# Altium integrated library Linear Technology Power Management Switching Regulator LTC1174-LTC3901.IntLib: 2647 symbols (part 294 of 364)
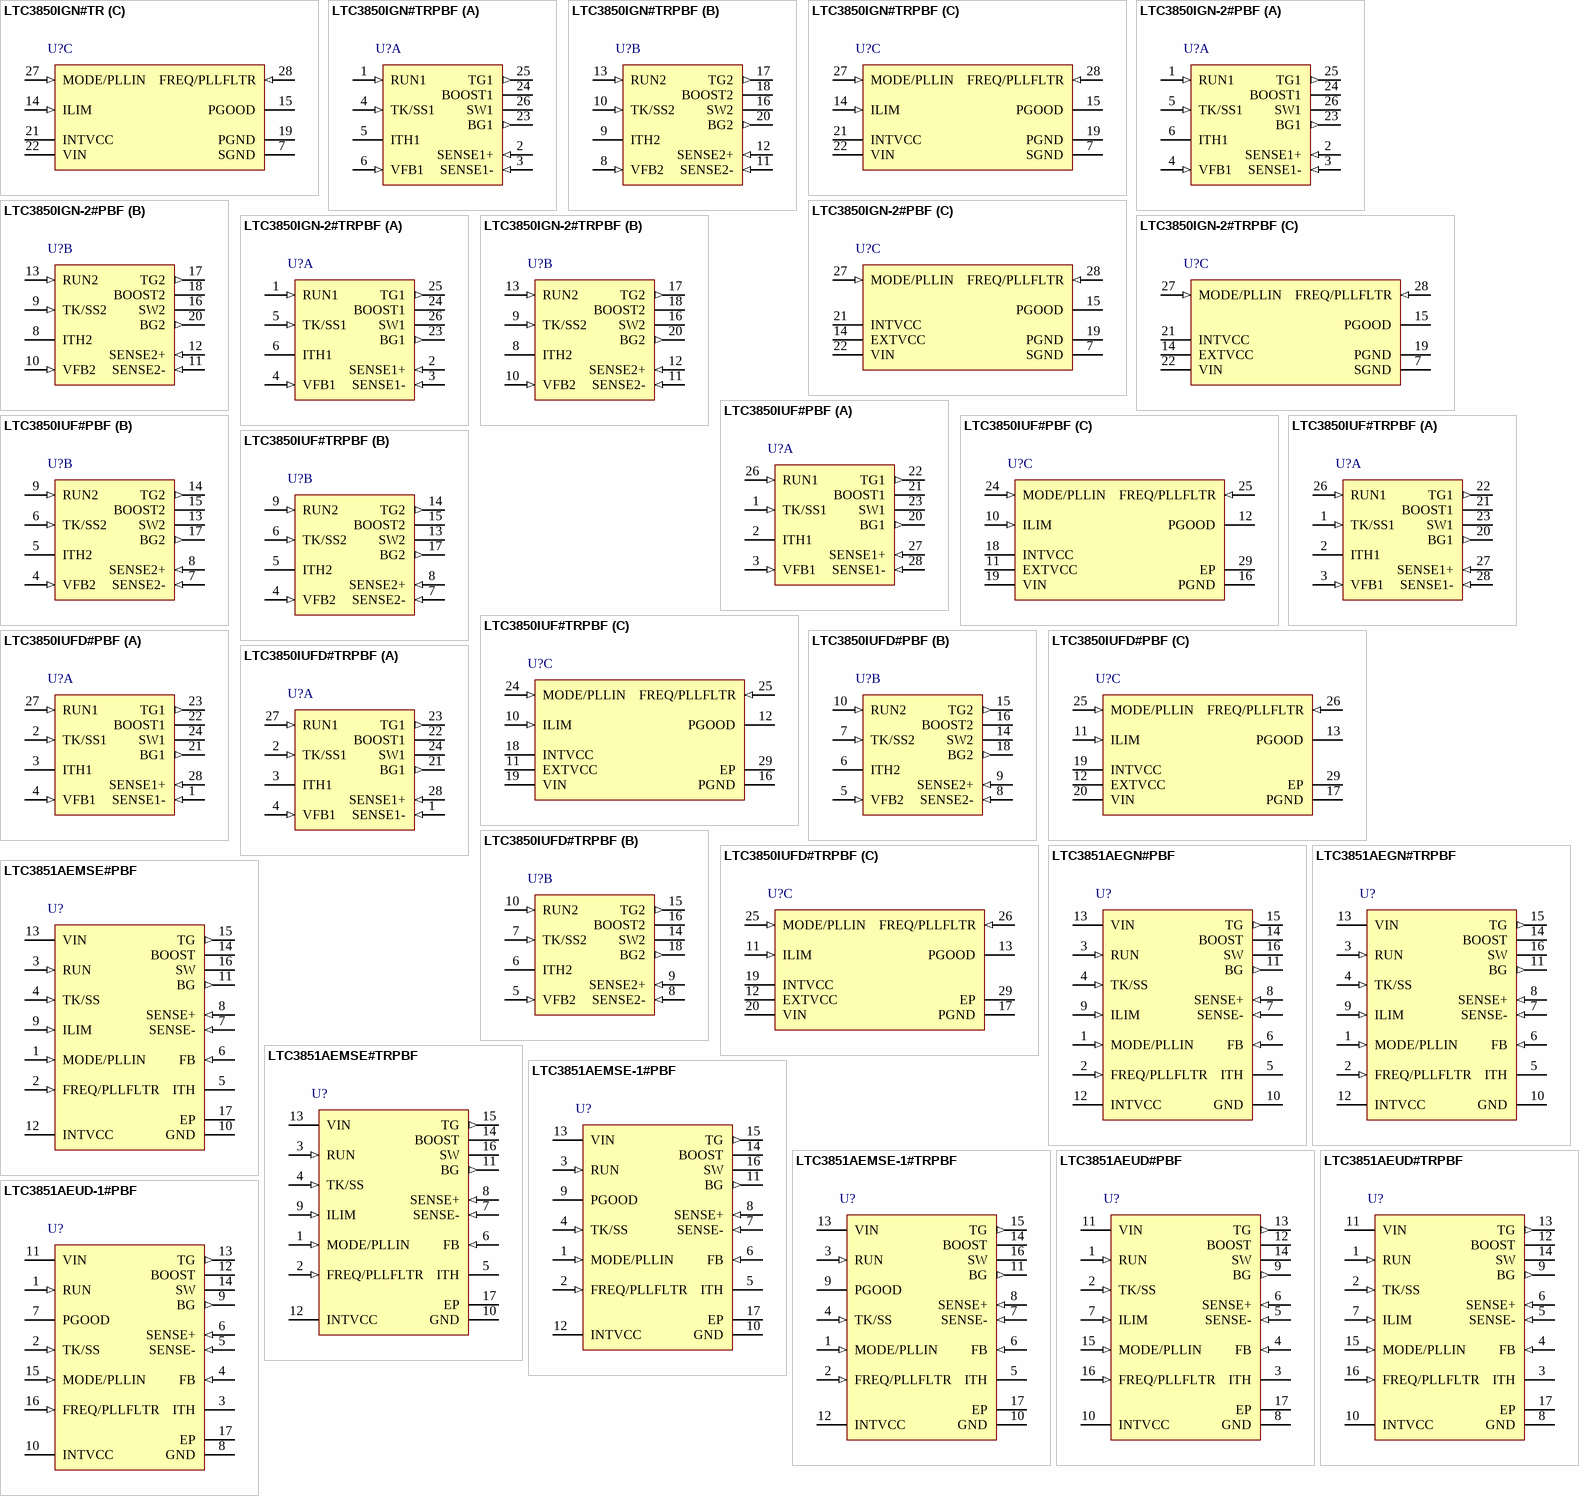
[diagram p269: symbols LTC3850IGN#TR to LTC3851AEUD-1#PBF]

## LTC3850IUFD#PBF
designator U?
Dual, 2-Phase Synchronous Step-Down Switching Controller, 28-pin QFN (UF-28), -40 to 85 degC, Pb-Free; Manufacturer: Linear Technology; PartNumber: LTC3850IUFD#PBF; Frequency Sync Range: 250kHz - 780kHz; Number of Outputs: 2; DatasheetVersion: Rev. C; PackageVersion: Rev. B, 06/2010; PackageReference: UFD-28; PackageDescription: 28-Pin Plastic QFN, Body 5 x 4 mm, Pitch 0.5 mm; Supplier 1: Digi-Key; Supplier Part Number 1: LTC3850IUFD#PBF-ND; Supplier 2: Farnell; Supplier Part Number 2: 2295174; RoHS: TRUE; Mounting Technology: Surface Mount; Code_JEDEC: MO-220; ComponentLink1Description: Manufacturer URL; ComponentLink1URL: http://www.linear.com/; ComponentLink2Description: Datasheet; ComponentLink2URL: http://cds.linear.com/docs/en/datasheet/38501fc.pdf; ComponentLink3Description: Package Specification; ComponentLink3URL: http://cds.linear.com/docs/en/packaging/QFN_28_05-08-1712.pdf
footprint LT-UFD-28_N (QFN, 28-Leads, Body 5.1x4.1mm, Pitch 0.5mm, Thermal Pad 3.65x2.65mm, IPC Medium Density)
footprint LT-UFD-28_L (QFN, 28-Leads, Body 5.1x4.1mm, Pitch 0.5mm, Thermal Pad 3.65x2.65mm, IPC High Density)
footprint LT-UFD-28_M (QFN, 28-Leads, Body 5.1x4.1mm, Pitch 0.5mm, Thermal Pad 3.65x2.65mm, IPC Low Density)
part A pins: 1 SENSE1- (in) "Current Sense Comparator Inputs. The (-) inputs to the current comparators are connected to the outputs.", 2 TK/SS1 (in) "Output Voltage Tracking and Soft-Start Inputs. When one particular channel is configured to be the master of two channels, a capacitor to ground at this pin sets the ramp rate for the master channel's output voltage. Whe(See Datasheet)", 3 ITH1 "Current Control Thresholds and Error Amplifier Compensation Points. Each associated channels?current comparator tripping threshold increases with its ITH control voltage.", 4 VFB1 (in) "Error Amplifier Feedback Inputs. These pins receive the remotely sensed feedback voltages for each channel from external resistive dividers across the outputs.", 21 BG1 (out) "Bottom Gate Driver Outputs. These pins drive the gates of the bottom N-channel MOSFETs between PGND and INTVCC.", 22 BOOST1 "Boosted Floating Driver Supplies. The (+) terminal of the booststrap capacitors connect to these pins. These pins swing from a diode voltage drop below INTVCC up to VIN + INTVCC.", 23 TG1 (out) "Top Gate Driver Outputs. These are the outputs of floating drivers with a voltage swing equal to INTVCC superimposed on the switch nodes voltages.", 24 SW1 "Switch Node Connections to Inductors. Voltage swing at these pins is from a Schottky diode (external) voltage drop below ground to VIN.", 27 RUN1 (in) "Run Control Inputs. A voltage above 1.2V on either pin turns on the IC. However, forcing either of these pins below 1.2V causes the IC to shut down the circuitry required for that particular channel. There are 1uA pull-up (See Datasheet)", 28 SENSE1+ (in) "Current Sense Comparator Inputs. The (+) inputs to the current comparators are normally connected to DCR sensing networks or current sensing resistors."
part B pins: 5 VFB2 (in) "Error Amplifier Feedback Inputs. These pins receive the remotely sensed feedback voltages for each channel from external resistive dividers across the outputs.", 6 ITH2 "Current Control Thresholds and Error Amplifier Compensation Points. Each associated channels?current comparator tripping threshold increases with its ITH control voltage.", 7 TK/SS2 (in) "Output Voltage Tracking and Soft-Start Inputs. When one particular channel is configured to be the master of two channels, a capacitor to ground at this pin sets the ramp rate for the master channel's output voltage. Whe(See Datasheet)", 8 SENSE2- (in) "Current Sense Comparator Inputs. The (-) inputs to the current comparators are connected to the outputs.", 9 SENSE2+ (in) "Current Sense Comparator Inputs. The (+) inputs to the current comparators are normally connected to DCR sensing networks or current sensing resistors.", 10 RUN2 (in) "Run Control Inputs. A voltage above 1.2V on either pin turns on the IC. However, forcing either of these pins below 1.2V causes the IC to shut down the circuitry required for that particular channel. There are 1uA pull-up (See Datasheet)", 14 SW2 "Switch Node Connections to Inductors. Voltage swing at these pins is from a Schottky diode (external) voltage drop below ground to VIN.", 15 TG2 (out) "Top Gate Driver Outputs. These are the outputs of floating drivers with a voltage swing equal to INTVCC superimposed on the switch nodes voltages.", 16 BOOST2 "Boosted Floating Driver Supplies. The (+) terminal of the booststrap capacitors connect to these pins. These pins swing from a diode voltage drop below INTVCC up to VIN + INTVCC.", 18 BG2 (out) "Bottom Gate Driver Outputs. These pins drive the gates of the bottom N-channel MOSFETs between PGND and INTVCC."
part C pins: 11 ILIM (in) "Current Comparator Sense Voltage Range Inputs. This pin is to be programmed to SGND, FLOAT or INTVCC to set the maximum current sense threshold to three different levels for each comparator. The current limit default value (See Datasheet)", 12 EXTVCC (power) "External Power Input to an Internal Switch Connected to INTVCC. This switch closes and supplies the IC power, bypassing the internal low dropout regulator, whenever EXTVCC is higher than 4.7V. Do not exceed 6V on this pin.", 13 PGOOD (oc) "Power Good Indicator Output. Open drain logic out that is pulled to ground when either channel output exceeds +/-10% regulation windows, after the internal 20us power bad mask timer expires.", 17 PGND (power) "Power Ground Pin. Connect this pin closely to the sources of the bottom N-channel MOSFETs, the (-) terminal of CVCC and the (-) terminal of CIN.", 19 INTVCC (power) "Internal 5V Regulator Output. The control circuits are powered from this voltage. Decouple this pin to PGND with a minimum of 4.7uF low ESR tantalum or ceramic capacitor.", 20 VIN (power) "Main Input Supply. Decouple this pin to PGND with a capacitor (0.1uF to 1uF).", 25 MODE/PLLIN (in) "Forced Continuous Mode, Burst Mode Operation, or Pulse-Skipping Mode Selection Pin and External Synchronization Input to Phase Detector Pin. Connect this pin to SGND to force both channels in continuous mode of operation. (See Datasheet)", 26 FREQ/PLLFLTR (in) "There is a precision 10uA current flowing out of this pin. Connect a resistor to ground set the controllers?operating frequency. Alternatively, this pin can be driven with a DC voltage to vary the frequency of th(See Datasheet)", 29 EP (power) "Signal Ground. Must be soldered to PCB, providing a local ground for the control components of the IC, and be tied to the PGND pin under the IC."

## LTC3850IUFD#TRPBF
designator U?
Dual, 2-Phase Synchronous Step-Down Switching Controller, 28-pin QFN (UF-28), -40 to 85 degC, Pb-Free, Tape and Reel; Manufacturer: Linear Technology; PartNumber: LTC3850IUFD#TRPBF; Frequency Sync Range: 250kHz - 780kHz; Number of Outputs: 2; DatasheetVersion: Rev. C; PackageVersion: Rev. B, 06/2010; PackageReference: UFD-28; PackageDescription: 28-Pin Plastic QFN, Body 5 x 4 mm, Pitch 0.5 mm; Supplier 1: Digi-Key; Supplier Part Number 1: LTC3850IUFD#TRPBF-ND; Supplier 2: Newark; Supplier Part Number 2: 75M4538; Packing: Tape and Reel; RoHS: TRUE; Mounting Technology: Surface Mount; Code_JEDEC: MO-220; ComponentLink1Description: Manufacturer URL; ComponentLink1URL: http://www.linear.com/; ComponentLink2Description: Datasheet; ComponentLink2URL: http://cds.linear.com/docs/en/datasheet/38501fc.pdf; ComponentLink3Description: Package Specification; ComponentLink3URL: http://cds.linear.com/docs/en/packaging/QFN_28_05-08-1712.pdf
footprint LT-UFD-28_N (QFN, 28-Leads, Body 5.1x4.1mm, Pitch 0.5mm, Thermal Pad 3.65x2.65mm, IPC Medium Density)
footprint LT-UFD-28_L (QFN, 28-Leads, Body 5.1x4.1mm, Pitch 0.5mm, Thermal Pad 3.65x2.65mm, IPC High Density)
footprint LT-UFD-28_M (QFN, 28-Leads, Body 5.1x4.1mm, Pitch 0.5mm, Thermal Pad 3.65x2.65mm, IPC Low Density)
part A pins: 1 SENSE1- (in) "Current Sense Comparator Inputs. The (-) inputs to the current comparators are connected to the outputs.", 2 TK/SS1 (in) "Output Voltage Tracking and Soft-Start Inputs. When one particular channel is configured to be the master of two channels, a capacitor to ground at this pin sets the ramp rate for the master channel's output voltage. Whe(See Datasheet)", 3 ITH1 "Current Control Thresholds and Error Amplifier Compensation Points. Each associated channels?current comparator tripping threshold increases with its ITH control voltage.", 4 VFB1 (in) "Error Amplifier Feedback Inputs. These pins receive the remotely sensed feedback voltages for each channel from external resistive dividers across the outputs.", 21 BG1 (out) "Bottom Gate Driver Outputs. These pins drive the gates of the bottom N-channel MOSFETs between PGND and INTVCC.", 22 BOOST1 "Boosted Floating Driver Supplies. The (+) terminal of the booststrap capacitors connect to these pins. These pins swing from a diode voltage drop below INTVCC up to VIN + INTVCC.", 23 TG1 (out) "Top Gate Driver Outputs. These are the outputs of floating drivers with a voltage swing equal to INTVCC superimposed on the switch nodes voltages.", 24 SW1 "Switch Node Connections to Inductors. Voltage swing at these pins is from a Schottky diode (external) voltage drop below ground to VIN.", 27 RUN1 (in) "Run Control Inputs. A voltage above 1.2V on either pin turns on the IC. However, forcing either of these pins below 1.2V causes the IC to shut down the circuitry required for that particular channel. There are 1uA pull-up (See Datasheet)", 28 SENSE1+ (in) "Current Sense Comparator Inputs. The (+) inputs to the current comparators are normally connected to DCR sensing networks or current sensing resistors."
part B pins: 5 VFB2 (in) "Error Amplifier Feedback Inputs. These pins receive the remotely sensed feedback voltages for each channel from external resistive dividers across the outputs.", 6 ITH2 "Current Control Thresholds and Error Amplifier Compensation Points. Each associated channels?current comparator tripping threshold increases with its ITH control voltage.", 7 TK/SS2 (in) "Output Voltage Tracking and Soft-Start Inputs. When one particular channel is configured to be the master of two channels, a capacitor to ground at this pin sets the ramp rate for the master channel's output voltage. Whe(See Datasheet)", 8 SENSE2- (in) "Current Sense Comparator Inputs. The (-) inputs to the current comparators are connected to the outputs.", 9 SENSE2+ (in) "Current Sense Comparator Inputs. The (+) inputs to the current comparators are normally connected to DCR sensing networks or current sensing resistors.", 10 RUN2 (in) "Run Control Inputs. A voltage above 1.2V on either pin turns on the IC. However, forcing either of these pins below 1.2V causes the IC to shut down the circuitry required for that particular channel. There are 1uA pull-up (See Datasheet)", 14 SW2 "Switch Node Connections to Inductors. Voltage swing at these pins is from a Schottky diode (external) voltage drop below ground to VIN.", 15 TG2 (out) "Top Gate Driver Outputs. These are the outputs of floating drivers with a voltage swing equal to INTVCC superimposed on the switch nodes voltages.", 16 BOOST2 "Boosted Floating Driver Supplies. The (+) terminal of the booststrap capacitors connect to these pins. These pins swing from a diode voltage drop below INTVCC up to VIN + INTVCC.", 18 BG2 (out) "Bottom Gate Driver Outputs. These pins drive the gates of the bottom N-channel MOSFETs between PGND and INTVCC."
part C pins: 11 ILIM (in) "Current Comparator Sense Voltage Range Inputs. This pin is to be programmed to SGND, FLOAT or INTVCC to set the maximum current sense threshold to three different levels for each comparator. The current limit default value (See Datasheet)", 12 EXTVCC (power) "External Power Input to an Internal Switch Connected to INTVCC. This switch closes and supplies the IC power, bypassing the internal low dropout regulator, whenever EXTVCC is higher than 4.7V. Do not exceed 6V on this pin.", 13 PGOOD (oc) "Power Good Indicator Output. Open drain logic out that is pulled to ground when either channel output exceeds +/-10% regulation windows, after the internal 20us power bad mask timer expires.", 17 PGND (power) "Power Ground Pin. Connect this pin closely to the sources of the bottom N-channel MOSFETs, the (-) terminal of CVCC and the (-) terminal of CIN.", 19 INTVCC (power) "Internal 5V Regulator Output. The control circuits are powered from this voltage. Decouple this pin to PGND with a minimum of 4.7uF low ESR tantalum or ceramic capacitor.", 20 VIN (power) "Main Input Supply. Decouple this pin to PGND with a capacitor (0.1uF to 1uF).", 25 MODE/PLLIN (in) "Forced Continuous Mode, Burst Mode Operation, or Pulse-Skipping Mode Selection Pin and External Synchronization Input to Phase Detector Pin. Connect this pin to SGND to force both channels in continuous mode of operation. (See Datasheet)", 26 FREQ/PLLFLTR (in) "There is a precision 10uA current flowing out of this pin. Connect a resistor to ground set the controllers?operating frequency. Alternatively, this pin can be driven with a DC voltage to vary the frequency of th(See Datasheet)", 29 EP (power) "Signal Ground. Must be soldered to PCB, providing a local ground for the control components of the IC, and be tied to the PGND pin under the IC."

## LTC3851AEGN#PBF
designator U?
Synchronous Step-Down Switching Regulator Controller (with Improved PLL), 16-pin SOP (GN-16), -40 to 125 degC, Pb-Free; Manufacturer: Linear Technology; PartNumber: LTC3851AEGN#PBF; Frequency Sync Range: 250kHz - 750kHz; Number of Outputs: 1; DatasheetVersion: Rev. A; PackageVersion: Rev. B, 03/2012; PackageReference: GN-16; PackageDescription: 16-Pin Plastic SSOP, Body 4.9 x 3.9 mm, Pitch 0.635 mm; Supplier 1: Digi-Key; Supplier Part Number 1: LTC3851AEGN#PBF-ND; Supplier 2: Farnell; Supplier Part Number 2: 1869418; Supplier 3: Newark; Supplier Part Number 3: 13T3928; RoHS: TRUE; Mounting Technology: Surface Mount; ComponentLink1Description: Manufacturer URL; ComponentLink1URL: http://www.linear.com/; ComponentLink2Description: Datasheet; ComponentLink2URL: http://cds.linear.com/docs/en/datasheet/3851afa.pdf; ComponentLink3Description: Package Specification; ComponentLink3URL: http://cds.linear.com/docs/en/packaging/05081641_B_GN16.pdf
footprint LT-GN-16_N (SOP, 16-Leads, Body 5x4mm, Pitch 0.635mm, IPC Medium Density)
footprint LT-GN-16_L (SOP, 16-Leads, Body 5x4mm, Pitch 0.635mm, IPC High Density)
footprint LT-GN-16_M (SOP, 16-Leads, Body 5x4mm, Pitch 0.635mm, IPC Low Density)
pins: 1 MODE/PLLIN (in), 2 FREQ/PLLFLTR (in), 3 RUN (in), 4 TK/SS (in), 5 ITH "Current Control Threshold and Error Amplifier Compensation Point. The current comparator tripping threshold increases with its ITH control voltage.", 6 FB (in) "Error Amplifier Feedback Input. This pin receives the remotely sensed feedback voltage from an external resistive divider across the output.", 7 SENSE- (in) "Current Sense Comparator Inverting Input. The (-) input to the current comparator is connected to the output.", 8 SENSE+ (in) "Current Sense Comparator Noninverting Input. The (+) input to the current comparator is normally connected to the DCR sensing network or current sensing resistor.", 9 ILIM (in) "Current Comparator Sense Voltage Range Input. Tying this pin to GND, FLOAT or INTVCC selects the maximum current sense threshold from three different levels.", 10 GND (power), 11 BG (out) "Bottom Gate Driver Output. This pin drives the gate of the bottom N-channel MOSFET between GND and INTVCC.", 12 INTVCC (power) "Internal 5V Regulator Output. The control circuit is powered from this voltage. Decouple this pin to GND with a minimum 2.2uF low ESR tantalum or ceramic capacitor.", 13 VIN (power) "Main Input Supply. Decouple this pin to GND with a capacitor.", 14 BOOST "Boosted Floating Driver Supply. The (+) terminal of the boost-strap capacitor is connected to this pin. This pin swings from a diode voltage drop below INTVCC up to VIN + INTVCC.", 15 TG (out) "Top Gate Driver Output. This is the output of a floating driver with a voltage swing equal to INTVCC superimposed on the switch node voltage.", 16 SW "Switch Node Connection to the Inductor. Voltage swing at this pin is from a Schottky diode (external) voltage drop below ground to VIN."

## LTC3851AEGN#TRPBF
designator U?
Synchronous Step-Down Switching Regulator Controller (with Improved PLL), 16-pin SOP (GN-16), -40 to 125 degC, Pb-Free, Tape and Reel; Manufacturer: Linear Technology; PartNumber: LTC3851AEGN#TRPBF; Frequency Sync Range: 250kHz - 750kHz; Number of Outputs: 1; DatasheetVersion: Rev. A; PackageVersion: Rev. B, 03/2012; PackageReference: GN-16; PackageDescription: 16-Pin Plastic SSOP, Body 4.9 x 3.9 mm, Pitch 0.635 mm; Supplier 1: Digi-Key; Supplier Part Number 1: LTC3851AEGN#TRPBF-ND; Packing: Tape and Reel; RoHS: TRUE; Mounting Technology: Surface Mount; ComponentLink1Description: Manufacturer URL; ComponentLink1URL: http://www.linear.com/; ComponentLink2Description: Datasheet; ComponentLink2URL: http://cds.linear.com/docs/en/datasheet/3851afa.pdf; ComponentLink3Description: Package Specification; ComponentLink3URL: http://cds.linear.com/docs/en/packaging/05081641_B_GN16.pdf
footprint LT-GN-16_N (SOP, 16-Leads, Body 5x4mm, Pitch 0.635mm, IPC Medium Density)
footprint LT-GN-16_L (SOP, 16-Leads, Body 5x4mm, Pitch 0.635mm, IPC High Density)
footprint LT-GN-16_M (SOP, 16-Leads, Body 5x4mm, Pitch 0.635mm, IPC Low Density)
pins: 1 MODE/PLLIN (in), 2 FREQ/PLLFLTR (in), 3 RUN (in), 4 TK/SS (in), 5 ITH "Current Control Threshold and Error Amplifier Compensation Point. The current comparator tripping threshold increases with its ITH control voltage.", 6 FB (in) "Error Amplifier Feedback Input. This pin receives the remotely sensed feedback voltage from an external resistive divider across the output.", 7 SENSE- (in) "Current Sense Comparator Inverting Input. The (-) input to the current comparator is connected to the output.", 8 SENSE+ (in) "Current Sense Comparator Noninverting Input. The (+) input to the current comparator is normally connected to the DCR sensing network or current sensing resistor.", 9 ILIM (in) "Current Comparator Sense Voltage Range Input. Tying this pin to GND, FLOAT or INTVCC selects the maximum current sense threshold from three different levels.", 10 GND (power), 11 BG (out) "Bottom Gate Driver Output. This pin drives the gate of the bottom N-channel MOSFET between GND and INTVCC.", 12 INTVCC (power) "Internal 5V Regulator Output. The control circuit is powered from this voltage. Decouple this pin to GND with a minimum 2.2uF low ESR tantalum or ceramic capacitor.", 13 VIN (power) "Main Input Supply. Decouple this pin to GND with a capacitor.", 14 BOOST "Boosted Floating Driver Supply. The (+) terminal of the boost-strap capacitor is connected to this pin. This pin swings from a diode voltage drop below INTVCC up to VIN + INTVCC.", 15 TG (out) "Top Gate Driver Output. This is the output of a floating driver with a voltage swing equal to INTVCC superimposed on the switch node voltage.", 16 SW "Switch Node Connection to the Inductor. Voltage swing at this pin is from a Schottky diode (external) voltage drop below ground to VIN."

## LTC3851AEMSE#PBF
designator U?
Synchronous Step-Down Switching Regulator Controller (with Improved PLL), 16-pin SOP (MSE-16-EDP), -40 to 125 degC, Pb-Free; Manufacturer: Linear Technology; PartNumber: LTC3851AEMSE#PBF; Frequency Sync Range: 250kHz - 750kHz; Number of Outputs: 1; DatasheetVersion: Rev. A; PackageVersion: Rev. F, 05/2013; PackageReference: MSE-16; PackageDescription: 16-Pin Plastic MSOP, Exposed Die Pad, Body 4.039 x 3 mm, Pitch 0.5 mm; Supplier 1: Digi-Key; Supplier Part Number 1: LTC3851AEMSE#PBF-ND; Supplier 2: Farnell; Supplier Part Number 2: 1869419; Supplier 3: Newark; Supplier Part Number 3: 13T3932; RoHS: TRUE; Mounting Technology: Surface Mount; ComponentLink1Description: Manufacturer URL; ComponentLink1URL: http://www.linear.com/; ComponentLink2Description: Datasheet; ComponentLink2URL: http://cds.linear.com/docs/en/datasheet/3851afa.pdf; ComponentLink3Description: Package Specification; ComponentLink3URL: http://cds.linear.com/docs/en/packaging/05081667_F_MSE16.pdf
footprint LT-MSE-16-EDP_N (SOP, 16-Leads, Body 4.1x3.1mm, Pitch 0.5mm, Thermal Pad 2.95x1.76mm, IPC Medium Density)
footprint LT-MSE-16-EDP_L (SOP, 16-Leads, Body 4.1x3.1mm, Pitch 0.5mm, Thermal Pad 2.95x1.76mm, IPC High Density)
footprint LT-MSE-16-EDP_M (SOP, 16-Leads, Body 4.1x3.1mm, Pitch 0.5mm, Thermal Pad 2.95x1.76mm, IPC Low Density)
pins: 1 MODE/PLLIN (in), 2 FREQ/PLLFLTR (in), 3 RUN (in), 4 TK/SS (in), 5 ITH "Current Control Threshold and Error Amplifier Compensation Point. The current comparator tripping threshold increases with its ITH control voltage.", 6 FB (in) "Error Amplifier Feedback Input. This pin receives the remotely sensed feedback voltage from an external resistive divider across the output.", 7 SENSE- (in) "Current Sense Comparator Inverting Input. The (-) input to the current comparator is connected to the output.", 8 SENSE+ (in) "Current Sense Comparator Noninverting Input. The (+) input to the current comparator is normally connected to the DCR sensing network or current sensing resistor.", 9 ILIM (in) "Current Comparator Sense Voltage Range Input. Tying this pin to GND, FLOAT or INTVCC selects the maximum current sense threshold from three different levels.", 10 GND (power) "Ground.", 11 BG (out) "Bottom Gate Driver Output. This pin drives the gate of the bottom N-channel MOSFET between GND and INTVCC.", 12 INTVCC (power) "Internal 5V Regulator Output. The control circuit is powered from this voltage. Decouple this pin to GND with a minimum 2.2uF low ESR tantalum or ceramic capacitor.", 13 VIN (power) "Main Input Supply. Decouple this pin to GND with a capacitor.", 14 BOOST "Boosted Floating Driver Supply. The (+) terminal of the boost-strap capacitor is connected to this pin. This pin swings from a diode voltage drop below INTVCC up to VIN + INTVCC.", 15 TG (out) "Top Gate Driver Output. This is the output of a floating driver with a voltage swing equal to INTVCC superimposed on the switch node voltage.", 16 SW "Switch Node Connection to the Inductor. Voltage swing at this pin is from a Schottky diode (external) voltage drop below ground to VIN.", 17 EP (power) "Ground."

## LTC3851AEMSE#TRPBF
designator U?
Synchronous Step-Down Switching Regulator Controller (with Improved PLL), 16-pin SOP (MSE-16-EDP), -40 to 125 degC, Pb-Free, Tape and Reel; Manufacturer: Linear Technology; PartNumber: LTC3851AEMSE#TRPBF; Frequency Sync Range: 250kHz - 750kHz; Number of Outputs: 1; DatasheetVersion: Rev. A; PackageVersion: Rev. F, 05/2013; PackageReference: MSE-16; PackageDescription: 16-Pin Plastic MSOP, Exposed Die Pad, Body 4.039 x 3 mm, Pitch 0.5 mm; Supplier 1: Digi-Key; Supplier Part Number 1: LTC3851AEMSE#TRPBF-ND; Packing: Tape and Reel; RoHS: TRUE; Mounting Technology: Surface Mount; ComponentLink1Description: Manufacturer URL; ComponentLink1URL: http://www.linear.com/; ComponentLink2Description: Datasheet; ComponentLink2URL: http://cds.linear.com/docs/en/datasheet/3851afa.pdf; ComponentLink3Description: Package Specification; ComponentLink3URL: http://cds.linear.com/docs/en/packaging/05081667_F_MSE16.pdf
footprint LT-MSE-16-EDP_N (SOP, 16-Leads, Body 4.1x3.1mm, Pitch 0.5mm, Thermal Pad 2.95x1.76mm, IPC Medium Density)
footprint LT-MSE-16-EDP_L (SOP, 16-Leads, Body 4.1x3.1mm, Pitch 0.5mm, Thermal Pad 2.95x1.76mm, IPC High Density)
footprint LT-MSE-16-EDP_M (SOP, 16-Leads, Body 4.1x3.1mm, Pitch 0.5mm, Thermal Pad 2.95x1.76mm, IPC Low Density)
pins: 1 MODE/PLLIN (in), 2 FREQ/PLLFLTR (in), 3 RUN (in), 4 TK/SS (in), 5 ITH "Current Control Threshold and Error Amplifier Compensation Point. The current comparator tripping threshold increases with its ITH control voltage.", 6 FB (in) "Error Amplifier Feedback Input. This pin receives the remotely sensed feedback voltage from an external resistive divider across the output.", 7 SENSE- (in) "Current Sense Comparator Inverting Input. The (-) input to the current comparator is connected to the output.", 8 SENSE+ (in) "Current Sense Comparator Noninverting Input. The (+) input to the current comparator is normally connected to the DCR sensing network or current sensing resistor.", 9 ILIM (in) "Current Comparator Sense Voltage Range Input. Tying this pin to GND, FLOAT or INTVCC selects the maximum current sense threshold from three different levels.", 10 GND (power) "Ground.", 11 BG (out) "Bottom Gate Driver Output. This pin drives the gate of the bottom N-channel MOSFET between GND and INTVCC.", 12 INTVCC (power) "Internal 5V Regulator Output. The control circuit is powered from this voltage. Decouple this pin to GND with a minimum 2.2uF low ESR tantalum or ceramic capacitor.", 13 VIN (power) "Main Input Supply. Decouple this pin to GND with a capacitor.", 14 BOOST "Boosted Floating Driver Supply. The (+) terminal of the boost-strap capacitor is connected to this pin. This pin swings from a diode voltage drop below INTVCC up to VIN + INTVCC.", 15 TG (out) "Top Gate Driver Output. This is the output of a floating driver with a voltage swing equal to INTVCC superimposed on the switch node voltage.", 16 SW "Switch Node Connection to the Inductor. Voltage swing at this pin is from a Schottky diode (external) voltage drop below ground to VIN.", 17 EP (power) "Ground."

## LTC3851AEMSE-1#PBF
designator U?
Synchronous Step-Down Switching Regulator Controller, 16-pin SOP (MSE-16-EDP), -40 to 125 degC, Pb-Free; Manufacturer: Linear Technology; PartNumber: LTC3851AEMSE-1#PBF; Frequency Sync Range: 250kHz - 750kHz; Number of Outputs: 1; DatasheetVersion: Rev. A; PackageVersion: Rev. F, 05/2013; PackageReference: MSE-16; PackageDescription: 16-Pin Plastic MSOP, Exposed Die Pad, Body 4.039 x 3 mm, Pitch 0.5 mm; Supplier 1: Digi-Key; Supplier Part Number 1: LTC3851AEMSE-1#PBF-ND; Supplier 2: Newark; Supplier Part Number 2: 13T3930; RoHS: TRUE; Mounting Technology: Surface Mount; ComponentLink1Description: Manufacturer URL; ComponentLink1URL: http://www.linear.com/; ComponentLink2Description: Datasheet; ComponentLink2URL: http://cds.linear.com/docs/en/datasheet/3851a1fa.pdf; ComponentLink3Description: Package Specification; ComponentLink3URL: http://cds.linear.com/docs/en/packaging/05081667_F_MSE16.pdf
footprint LT-MSE-16-EDP_N (SOP, 16-Leads, Body 4.1x3.1mm, Pitch 0.5mm, Thermal Pad 2.95x1.76mm, IPC Medium Density)
footprint LT-MSE-16-EDP_L (SOP, 16-Leads, Body 4.1x3.1mm, Pitch 0.5mm, Thermal Pad 2.95x1.76mm, IPC High Density)
footprint LT-MSE-16-EDP_M (SOP, 16-Leads, Body 4.1x3.1mm, Pitch 0.5mm, Thermal Pad 2.95x1.76mm, IPC Low Density)
pins: 1 MODE/PLLIN (in), 2 FREQ/PLLFLTR (in), 3 RUN (in), 4 TK/SS (in), 5 ITH "Current Control Threshold and Error Amplifier Compensation Point. The current comparator tripping threshold increases with its ITH control voltage.", 6 FB (in) "Error Amplifier Feedback Input. This pin receives the remotely sensed feedback voltage from an external resistive divider across the output.", 7 SENSE- (in) "Current Sense Comparator Inverting Input. The (-) input to the current comparator is connected to the output.", 8 SENSE+ (in) "Current Sense Comparator Noninverting Input. The (+) input to the current comparator is normally connected to the DCR sensing network or current sensing resistor.", 9 PGOOD (oc) "Power Good Indicator Output. Opendrain logic out that is pulled to ground when the output voltage exceeds the +/-10% regulation window, after the internal 17us power bad mask timer expires.", 10 GND (power) "Ground.", 11 BG (out) "Bottom Gate Driver Output. This pin drives the gate of the bottom N-channel MOSFET between GND and INTVCC.", 12 INTVCC (power) "Internal 5V Regulator Output. The control circuit is powered from this voltage. Decouple this pin to GND with a minimum 2.2uF low ESR tantalum or ceramic capacitor.", 13 VIN (power) "Main Input Supply. Decouple this pin to GND with a capacitor.", 14 BOOST "Boosted Floating Driver Supply. The (+) terminal of the boost-strap capacitor is connected to this pin. This pin swings from a diode voltage drop below INTVCC up to VIN + INTVCC.", 15 TG (out) "Top Gate Driver Output. This is the output of a floating driver with a voltage swing equal to INTVCC superimposed on the switch node voltage.", 16 SW "Switch Node Connection to the Inductor. Voltage swing at this pin is from a Schottky diode (external) voltage drop below ground to VIN.", 17 EP (power) "Ground."

## LTC3851AEMSE-1#TRPBF
designator U?
Synchronous Step-Down Switching Regulator Controller, 16-pin SOP (MSE-16-EDP), -40 to 125 degC, Pb-Free, Tape and Reel; Manufacturer: Linear Technology; PartNumber: LTC3851AEMSE-1#TRPBF; Frequency Sync Range: 250kHz - 750kHz; Number of Outputs: 1; DatasheetVersion: Rev. A; PackageVersion: Rev. F, 05/2013; PackageReference: MSE-16; PackageDescription: 16-Pin Plastic MSOP, Exposed Die Pad, Body 4.039 x 3 mm, Pitch 0.5 mm; Supplier 1: Digi-Key; Supplier Part Number 1: LTC3851AEMSE-1#TRPBF-ND; Supplier 2: Newark; Supplier Part Number 2: 13T3931; Packing: Tape and Reel; RoHS: TRUE; Mounting Technology: Surface Mount; ComponentLink1Description: Manufacturer URL; ComponentLink1URL: http://www.linear.com/; ComponentLink2Description: Datasheet; ComponentLink2URL: http://cds.linear.com/docs/en/datasheet/3851a1fa.pdf; ComponentLink3Description: Package Specification; ComponentLink3URL: http://cds.linear.com/docs/en/packaging/05081667_F_MSE16.pdf
footprint LT-MSE-16-EDP_N (SOP, 16-Leads, Body 4.1x3.1mm, Pitch 0.5mm, Thermal Pad 2.95x1.76mm, IPC Medium Density)
footprint LT-MSE-16-EDP_L (SOP, 16-Leads, Body 4.1x3.1mm, Pitch 0.5mm, Thermal Pad 2.95x1.76mm, IPC High Density)
footprint LT-MSE-16-EDP_M (SOP, 16-Leads, Body 4.1x3.1mm, Pitch 0.5mm, Thermal Pad 2.95x1.76mm, IPC Low Density)
pins: 1 MODE/PLLIN (in), 2 FREQ/PLLFLTR (in), 3 RUN (in), 4 TK/SS (in), 5 ITH "Current Control Threshold and Error Amplifier Compensation Point. The current comparator tripping threshold increases with its ITH control voltage.", 6 FB (in) "Error Amplifier Feedback Input. This pin receives the remotely sensed feedback voltage from an external resistive divider across the output.", 7 SENSE- (in) "Current Sense Comparator Inverting Input. The (-) input to the current comparator is connected to the output.", 8 SENSE+ (in) "Current Sense Comparator Noninverting Input. The (+) input to the current comparator is normally connected to the DCR sensing network or current sensing resistor.", 9 PGOOD (oc) "Power Good Indicator Output. Opendrain logic out that is pulled to ground when the output voltage exceeds the +/-10% regulation window, after the internal 17us power bad mask timer expires.", 10 GND (power) "Ground.", 11 BG (out) "Bottom Gate Driver Output. This pin drives the gate of the bottom N-channel MOSFET between GND and INTVCC.", 12 INTVCC (power) "Internal 5V Regulator Output. The control circuit is powered from this voltage. Decouple this pin to GND with a minimum 2.2uF low ESR tantalum or ceramic capacitor.", 13 VIN (power) "Main Input Supply. Decouple this pin to GND with a capacitor.", 14 BOOST "Boosted Floating Driver Supply. The (+) terminal of the boost-strap capacitor is connected to this pin. This pin swings from a diode voltage drop below INTVCC up to VIN + INTVCC.", 15 TG (out) "Top Gate Driver Output. This is the output of a floating driver with a voltage swing equal to INTVCC superimposed on the switch node voltage.", 16 SW "Switch Node Connection to the Inductor. Voltage swing at this pin is from a Schottky diode (external) voltage drop below ground to VIN.", 17 EP (power) "Ground."

## LTC3851AEUD#PBF
designator U?
Synchronous Step-Down Switching Regulator Controller (with Improved PLL), 16-pin QFN (UD-16), -40 to 125 degC, Pb-Free; Manufacturer: Linear Technology; PartNumber: LTC3851AEUD#PBF; Frequency Sync Range: 250kHz - 750kHz; Number of Outputs: 1; DatasheetVersion: Rev. A; PackageVersion: Jun-10; PackageReference: UD-16; PackageDescription: 16-Pin Plastic QFN, Body 3 x 3 mm, Pitch 0.5 mm; Supplier 1: Digi-Key; Supplier Part Number 1: LTC3851AEUD#PBF-ND; RoHS: TRUE; Mounting Technology: Surface Mount; Code_JEDEC: MO-220; ComponentLink1Description: Manufacturer URL; ComponentLink1URL: http://www.linear.com/; ComponentLink2Description: Datasheet; ComponentLink2URL: http://cds.linear.com/docs/en/datasheet/3851afa.pdf; ComponentLink3Description: Package Specification; ComponentLink3URL: http://cds.linear.com/docs/en/packaging/QFN_16_05-08-1691.pdf
footprint LT-UD-16_N (QFN, 16-Leads, Body 3x3mm, Pitch 0.5mm, Thermal Pad 1.45x1.45mm, IPC Medium Density)
footprint LT-UD-16_L (QFN, 16-Leads, Body 3x3mm, Pitch 0.5mm, Thermal Pad 1.45x1.45mm, IPC High Density)
footprint LT-UD-16_M (QFN, 16-Leads, Body 3x3mm, Pitch 0.5mm, Thermal Pad 1.45x1.45mm, IPC Low Density)
pins: 1 RUN (in), 2 TK/SS (in), 3 ITH "Current Control Threshold and Error Amplifier Compensation Point. The current comparator tripping threshold increases with its ITH control voltage.", 4 FB (in) "Error Amplifier Feedback Input. This pin receives the remotely sensed feedback voltage from an external resistive divider across the output.", 5 SENSE- (in) "Current Sense Comparator Inverting Input. The (-) input to the current comparator is connected to the output.", 6 SENSE+ (in) "Current Sense Comparator Noninverting Input. The (+) input to the current comparator is normally connected to the DCR sensing network or current sensing resistor.", 7 ILIM (in) "Current Comparator Sense Voltage Range Input. Tying this pin to GND, FLOAT or INTVCC selects the maximum current sense threshold from three different levels.", 8 GND (power) "Ground. All small-signal components and compensation components should be Kelvin connected to this ground. The (-) terminal of CVCC and the (-) terminal of CIN should be closely connected to this pin. The exposed pad should (See Datasheet)", 9 BG (out) "Bottom Gate Driver Output. This pin drives the gate of the bottom N-channel MOSFET between GND and INTVCC.", 10 INTVCC (power) "Internal 5V Regulator Output. The control circuit is powered from this voltage. Decouple this pin to GND with a minimum 2.2uF low ESR tantalum or ceramic capacitor.", 11 VIN (power) "Main Input Supply. Decouple this pin to GND with a capacitor.", 12 BOOST "Boosted Floating Driver Supply. The (+) terminal of the boost-strap capacitor is connected to this pin. This pin swings from a diode voltage drop below INTVCC up to VIN + INTVCC.", 13 TG (out) "Top Gate Driver Output. This is the output of a floating driver with a voltage swing equal to INTVCC superimposed on the switch node voltage.", 14 SW "Switch Node Connection to the Inductor. Voltage swing at this pin is from a Schottky diode (external) voltage drop below ground to VIN.", 15 MODE/PLLIN (in), 16 FREQ/PLLFLTR (in), 17 EP (power) "Ground. All small-signal components and compensation components should be Kelvin connected to this ground. The (-) terminal of CVCC and the (-) terminal of CIN should be closely connected to this pin. The exposed pad should (See Datasheet)"

## LTC3851AEUD#TRPBF
designator U?
Synchronous Step-Down Switching Regulator Controller (with Improved PLL), 16-pin QFN (UD-16), -40 to 125 degC, Pb-Free, Tape and Reel; Manufacturer: Linear Technology; PartNumber: LTC3851AEUD#TRPBF; Frequency Sync Range: 250kHz - 750kHz; Number of Outputs: 1; DatasheetVersion: Rev. A; PackageVersion: Jun-10; PackageReference: UD-16; PackageDescription: 16-Pin Plastic QFN, Body 3 x 3 mm, Pitch 0.5 mm; Supplier 1: Digi-Key; Supplier Part Number 1: LTC3851AEUD#TRPBF-ND; Packing: Tape and Reel; RoHS: TRUE; Mounting Technology: Surface Mount; Code_JEDEC: MO-220; ComponentLink1Description: Manufacturer URL; ComponentLink1URL: http://www.linear.com/; ComponentLink2Description: Datasheet; ComponentLink2URL: http://cds.linear.com/docs/en/datasheet/3851afa.pdf; ComponentLink3Description: Package Specification; ComponentLink3URL: http://cds.linear.com/docs/en/packaging/QFN_16_05-08-1691.pdf
footprint LT-UD-16_N (QFN, 16-Leads, Body 3x3mm, Pitch 0.5mm, Thermal Pad 1.45x1.45mm, IPC Medium Density)
footprint LT-UD-16_L (QFN, 16-Leads, Body 3x3mm, Pitch 0.5mm, Thermal Pad 1.45x1.45mm, IPC High Density)
footprint LT-UD-16_M (QFN, 16-Leads, Body 3x3mm, Pitch 0.5mm, Thermal Pad 1.45x1.45mm, IPC Low Density)
pins: 1 RUN (in), 2 TK/SS (in), 3 ITH "Current Control Threshold and Error Amplifier Compensation Point. The current comparator tripping threshold increases with its ITH control voltage.", 4 FB (in) "Error Amplifier Feedback Input. This pin receives the remotely sensed feedback voltage from an external resistive divider across the output.", 5 SENSE- (in) "Current Sense Comparator Inverting Input. The (-) input to the current comparator is connected to the output.", 6 SENSE+ (in) "Current Sense Comparator Noninverting Input. The (+) input to the current comparator is normally connected to the DCR sensing network or current sensing resistor.", 7 ILIM (in) "Current Comparator Sense Voltage Range Input. Tying this pin to GND, FLOAT or INTVCC selects the maximum current sense threshold from three different levels.", 8 GND (power) "Ground. All small-signal components and compensation components should be Kelvin connected to this ground. The (-) terminal of CVCC and the (-) terminal of CIN should be closely connected to this pin. The exposed pad should (See Datasheet)", 9 BG (out) "Bottom Gate Driver Output. This pin drives the gate of the bottom N-channel MOSFET between GND and INTVCC.", 10 INTVCC (power) "Internal 5V Regulator Output. The control circuit is powered from this voltage. Decouple this pin to GND with a minimum 2.2uF low ESR tantalum or ceramic capacitor.", 11 VIN (power) "Main Input Supply. Decouple this pin to GND with a capacitor.", 12 BOOST "Boosted Floating Driver Supply. The (+) terminal of the boost-strap capacitor is connected to this pin. This pin swings from a diode voltage drop below INTVCC up to VIN + INTVCC.", 13 TG (out) "Top Gate Driver Output. This is the output of a floating driver with a voltage swing equal to INTVCC superimposed on the switch node voltage.", 14 SW "Switch Node Connection to the Inductor. Voltage swing at this pin is from a Schottky diode (external) voltage drop below ground to VIN.", 15 MODE/PLLIN (in), 16 FREQ/PLLFLTR (in), 17 EP (power) "Ground. All small-signal components and compensation components should be Kelvin connected to this ground. The (-) terminal of CVCC and the (-) terminal of CIN should be closely connected to this pin. The exposed pad should (See Datasheet)"

## LTC3851AEUD-1#PBF
designator U?
Synchronous Step-Down Switching Regulator Controller, 16-pin QFN (UD-16), -40 to 125 degC, Pb-Free; Manufacturer: Linear Technology; PartNumber: LTC3851AEUD-1#PBF; Frequency Sync Range: 250kHz - 750kHz; Number of Outputs: 1; DatasheetVersion: Rev. A; PackageVersion: Jun-10; PackageReference: UD-16; PackageDescription: 16-Pin Plastic QFN, Body 3 x 3 mm, Pitch 0.5 mm; Supplier 1: Digi-Key; Supplier Part Number 1: LTC3851AEUD-1#PBF-ND; Supplier 2: Newark; Supplier Part Number 2: 13T3933; RoHS: TRUE; Mounting Technology: Surface Mount; Code_JEDEC: MO-220; ComponentLink1Description: Manufacturer URL; ComponentLink1URL: http://www.linear.com/; ComponentLink2Description: Datasheet; ComponentLink2URL: http://cds.linear.com/docs/en/datasheet/3851a1fa.pdf; ComponentLink3Description: Package Specification; ComponentLink3URL: http://cds.linear.com/docs/en/packaging/QFN_16_05-08-1691.pdf
footprint LT-UD-16_N (QFN, 16-Leads, Body 3x3mm, Pitch 0.5mm, Thermal Pad 1.45x1.45mm, IPC Medium Density)
footprint LT-UD-16_L (QFN, 16-Leads, Body 3x3mm, Pitch 0.5mm, Thermal Pad 1.45x1.45mm, IPC High Density)
footprint LT-UD-16_M (QFN, 16-Leads, Body 3x3mm, Pitch 0.5mm, Thermal Pad 1.45x1.45mm, IPC Low Density)
pins: 1 RUN (in), 2 TK/SS (in), 3 ITH "Current Control Threshold and Error Amplifier Compensation Point. The current comparator tripping threshold increases with its ITH control voltage.", 4 FB (in) "Error Amplifier Feedback Input. This pin receives the remotely sensed feedback voltage from an external resistive divider across the output.", 5 SENSE- (in) "Current Sense Comparator Inverting Input. The (-) input to the current comparator is connected to the output.", 6 SENSE+ (in) "Current Sense Comparator Noninverting Input. The (+) input to the current comparator is normally connected to the DCR sensing network or current sensing resistor.", 7 PGOOD (oc) "Power Good Indicator Output. Opendrain logic out that is pulled to ground when the output voltage exceeds the +/-10% regulation window, after the internal 17us power bad mask timer expires.", 8 GND (power), 9 BG (out) "Bottom Gate Driver Output. This pin drives the gate of the bottom N-channel MOSFET between GND and INTVCC.", 10 INTVCC (power) "Internal 5V Regulator Output. The control circuit is powered from this voltage. Decouple this pin to GND with a minimum 2.2uF low ESR tantalum or ceramic capacitor.", 11 VIN (power) "Main Input Supply. Decouple this pin to GND with a capacitor.", 12 BOOST "Boosted Floating Driver Supply. The (+) terminal of the boost-strap capacitor is connected to this pin. This pin swings from a diode voltage drop below INTVCC up to VIN + INTVCC.", 13 TG (out) "Top Gate Driver Output. This is the output of a floating driver with a voltage swing equal to INTVCC superimposed on the switch node voltage.", 14 SW "Switch Node Connection to the Inductor. Voltage swing at this pin is from a Schottky diode (external) voltage drop below ground to VIN.", 15 MODE/PLLIN (in), 16 FREQ/PLLFLTR (in), 17 EP (power)

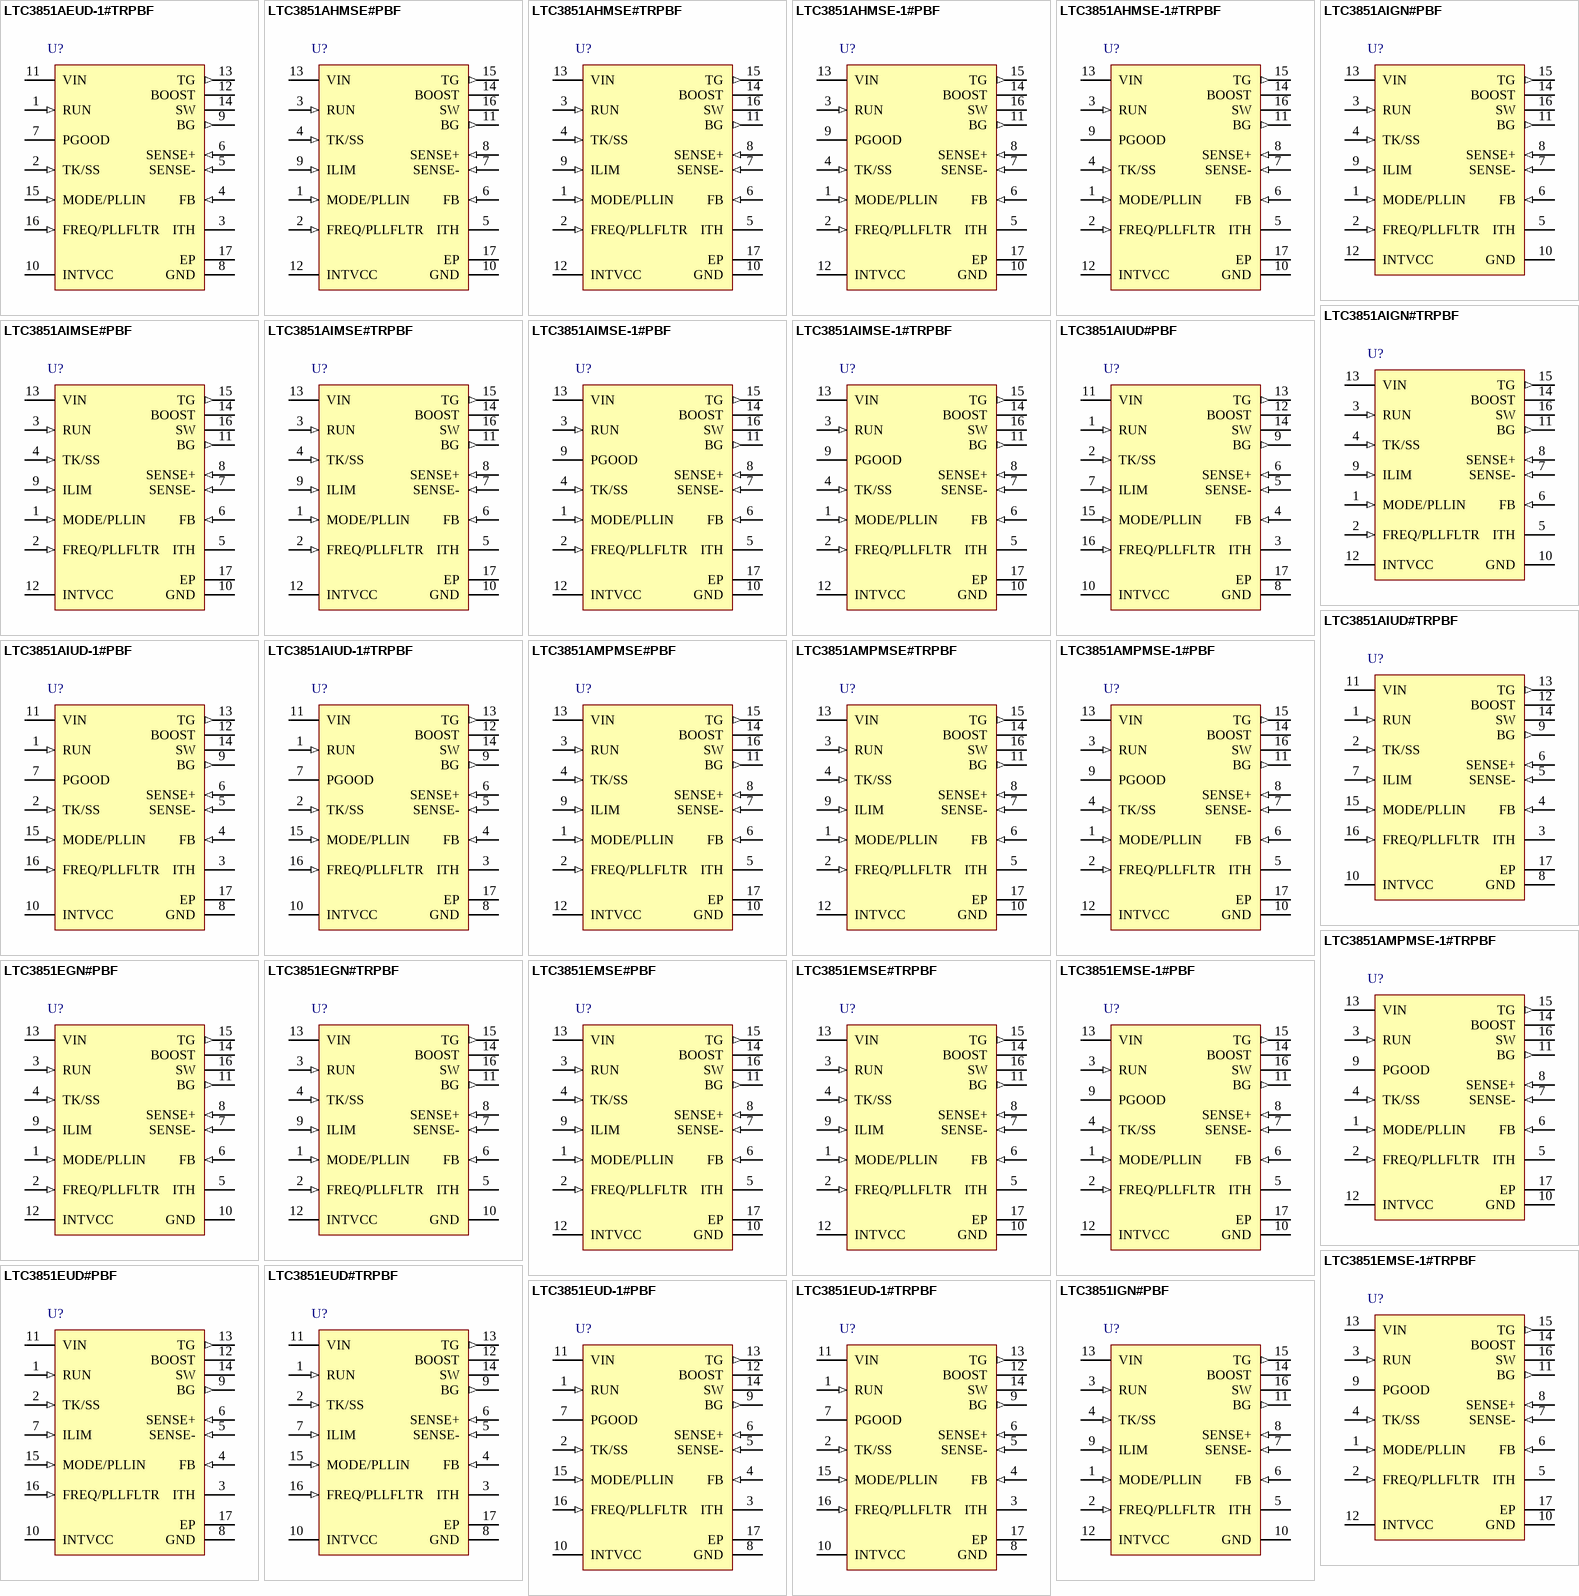
[diagram p92: symbols LTC3851AEUD-1#TRPBF to LTC3851IGN#PBF]

## LTC3851AEUD-1#TRPBF
designator U?
Synchronous Step-Down Switching Regulator Controller, 16-pin QFN (UD-16), -40 to 125 degC, Pb-Free, Tape and Reel; Manufacturer: Linear Technology; PartNumber: LTC3851AEUD-1#TRPBF; Frequency Sync Range: 250kHz - 750kHz; Number of Outputs: 1; DatasheetVersion: Rev. A; PackageVersion: Jun-10; PackageReference: UD-16; PackageDescription: 16-Pin Plastic QFN, Body 3 x 3 mm, Pitch 0.5 mm; Supplier 1: Digi-Key; Supplier Part Number 1: LTC3851AEUD-1#TRPBF-ND; Packing: Tape and Reel; RoHS: TRUE; Mounting Technology: Surface Mount; Code_JEDEC: MO-220; ComponentLink1Description: Manufacturer URL; ComponentLink1URL: http://www.linear.com/; ComponentLink2Description: Datasheet; ComponentLink2URL: http://cds.linear.com/docs/en/datasheet/3851a1fa.pdf; ComponentLink3Description: Package Specification; ComponentLink3URL: http://cds.linear.com/docs/en/packaging/QFN_16_05-08-1691.pdf
footprint LT-UD-16_N (QFN, 16-Leads, Body 3x3mm, Pitch 0.5mm, Thermal Pad 1.45x1.45mm, IPC Medium Density)
footprint LT-UD-16_L (QFN, 16-Leads, Body 3x3mm, Pitch 0.5mm, Thermal Pad 1.45x1.45mm, IPC High Density)
footprint LT-UD-16_M (QFN, 16-Leads, Body 3x3mm, Pitch 0.5mm, Thermal Pad 1.45x1.45mm, IPC Low Density)
pins: 1 RUN (in), 2 TK/SS (in), 3 ITH "Current Control Threshold and Error Amplifier Compensation Point. The current comparator tripping threshold increases with its ITH control voltage.", 4 FB (in) "Error Amplifier Feedback Input. This pin receives the remotely sensed feedback voltage from an external resistive divider across the output.", 5 SENSE- (in) "Current Sense Comparator Inverting Input. The (-) input to the current comparator is connected to the output.", 6 SENSE+ (in) "Current Sense Comparator Noninverting Input. The (+) input to the current comparator is normally connected to the DCR sensing network or current sensing resistor.", 7 PGOOD (oc) "Power Good Indicator Output. Opendrain logic out that is pulled to ground when the output voltage exceeds the +/-10% regulation window, after the internal 17us power bad mask timer expires.", 8 GND (power), 9 BG (out) "Bottom Gate Driver Output. This pin drives the gate of the bottom N-channel MOSFET between GND and INTVCC.", 10 INTVCC (power) "Internal 5V Regulator Output. The control circuit is powered from this voltage. Decouple this pin to GND with a minimum 2.2uF low ESR tantalum or ceramic capacitor.", 11 VIN (power) "Main Input Supply. Decouple this pin to GND with a capacitor.", 12 BOOST "Boosted Floating Driver Supply. The (+) terminal of the boost-strap capacitor is connected to this pin. This pin swings from a diode voltage drop below INTVCC up to VIN + INTVCC.", 13 TG (out) "Top Gate Driver Output. This is the output of a floating driver with a voltage swing equal to INTVCC superimposed on the switch node voltage.", 14 SW "Switch Node Connection to the Inductor. Voltage swing at this pin is from a Schottky diode (external) voltage drop below ground to VIN.", 15 MODE/PLLIN (in), 16 FREQ/PLLFLTR (in), 17 EP (power)

## LTC3851AHMSE#PBF
designator U?
Synchronous Step-Down Switching Regulator Controller (with Improved PLL), 16-pin SOP (MSE-16-EDP), -40 to 150 degC, Pb-Free; Manufacturer: Linear Technology; PartNumber: LTC3851AHMSE#PBF; Frequency Sync Range: 250kHz - 750kHz; Number of Outputs: 1; DatasheetVersion: Rev. A; PackageVersion: Rev. F, 05/2013; PackageReference: MSE-16; PackageDescription: 16-Pin Plastic MSOP, Exposed Die Pad, Body 4.039 x 3 mm, Pitch 0.5 mm; Supplier 1: Digi-Key; Supplier Part Number 1: LTC3851AHMSE#PBF-ND; RoHS: TRUE; Mounting Technology: Surface Mount; ComponentLink1Description: Manufacturer URL; ComponentLink1URL: http://www.linear.com/; ComponentLink2Description: Datasheet; ComponentLink2URL: http://cds.linear.com/docs/en/datasheet/3851afa.pdf; ComponentLink3Description: Package Specification; ComponentLink3URL: http://cds.linear.com/docs/en/packaging/05081667_F_MSE16.pdf
footprint LT-MSE-16-EDP_N (SOP, 16-Leads, Body 4.1x3.1mm, Pitch 0.5mm, Thermal Pad 2.95x1.76mm, IPC Medium Density)
footprint LT-MSE-16-EDP_L (SOP, 16-Leads, Body 4.1x3.1mm, Pitch 0.5mm, Thermal Pad 2.95x1.76mm, IPC High Density)
footprint LT-MSE-16-EDP_M (SOP, 16-Leads, Body 4.1x3.1mm, Pitch 0.5mm, Thermal Pad 2.95x1.76mm, IPC Low Density)
pins: 1 MODE/PLLIN (in), 2 FREQ/PLLFLTR (in), 3 RUN (in), 4 TK/SS (in), 5 ITH "Current Control Threshold and Error Amplifier Compensation Point. The current comparator tripping threshold increases with its ITH control voltage.", 6 FB (in) "Error Amplifier Feedback Input. This pin receives the remotely sensed feedback voltage from an external resistive divider across the output.", 7 SENSE- (in) "Current Sense Comparator Inverting Input. The (-) input to the current comparator is connected to the output.", 8 SENSE+ (in) "Current Sense Comparator Noninverting Input. The (+) input to the current comparator is normally connected to the DCR sensing network or current sensing resistor.", 9 ILIM (in) "Current Comparator Sense Voltage Range Input. Tying this pin to GND, FLOAT or INTVCC selects the maximum current sense threshold from three different levels.", 10 GND (power) "Ground.", 11 BG (out) "Bottom Gate Driver Output. This pin drives the gate of the bottom N-channel MOSFET between GND and INTVCC.", 12 INTVCC (power) "Internal 5V Regulator Output. The control circuit is powered from this voltage. Decouple this pin to GND with a minimum 2.2uF low ESR tantalum or ceramic capacitor.", 13 VIN (power) "Main Input Supply. Decouple this pin to GND with a capacitor.", 14 BOOST "Boosted Floating Driver Supply. The (+) terminal of the boost-strap capacitor is connected to this pin. This pin swings from a diode voltage drop below INTVCC up to VIN + INTVCC.", 15 TG (out) "Top Gate Driver Output. This is the output of a floating driver with a voltage swing equal to INTVCC superimposed on the switch node voltage.", 16 SW "Switch Node Connection to the Inductor. Voltage swing at this pin is from a Schottky diode (external) voltage drop below ground to VIN.", 17 EP (power) "Ground."